# EAGLE library part OMNETICS_PZN-06 (library RHD2000)
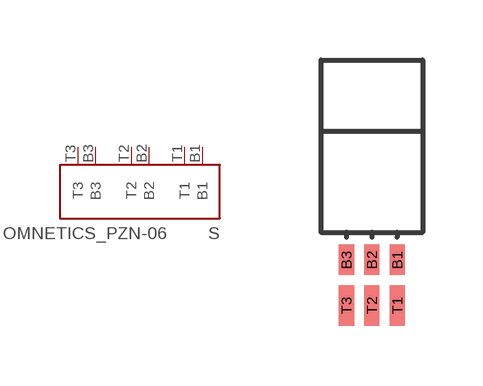
[diagram p7: symbol with the pads of OMNETICS_PZN-06-AA; footprint OMNETICS_PZN-06-AA]

Designator prefix S

## OMNETICS_PZN-06_SMD  [OMNETICS_PZN-06-AA]
B1  B1
B2  B2
B3  B3
T1  T1
T2  T2
T3  T3

## Footprint OMNETICS_PZN-06-AA (pad centres in mm)
smd 0.381 x 0.762: B1 0.635,-1.016; B2 0,-1.016; B3 -0.635,-1.016
smd 0.381 x 1.016: T1 0.635,-2.159; T2 0,-2.159; T3 -0.635,-2.159